# Altium footprint library Misc.PcbLib: 27 footprints (part 1 of 2)
Each footprint in its own frame and in the unit in brackets; x right, y up, seen from the top. Pads: shape width x height; smd on the part's side, far side on the other; paste and mask are expansions set on the pad; w line width, h text height; cw(c..) or ccw(c..) is an arc to the next point about the centre after c.
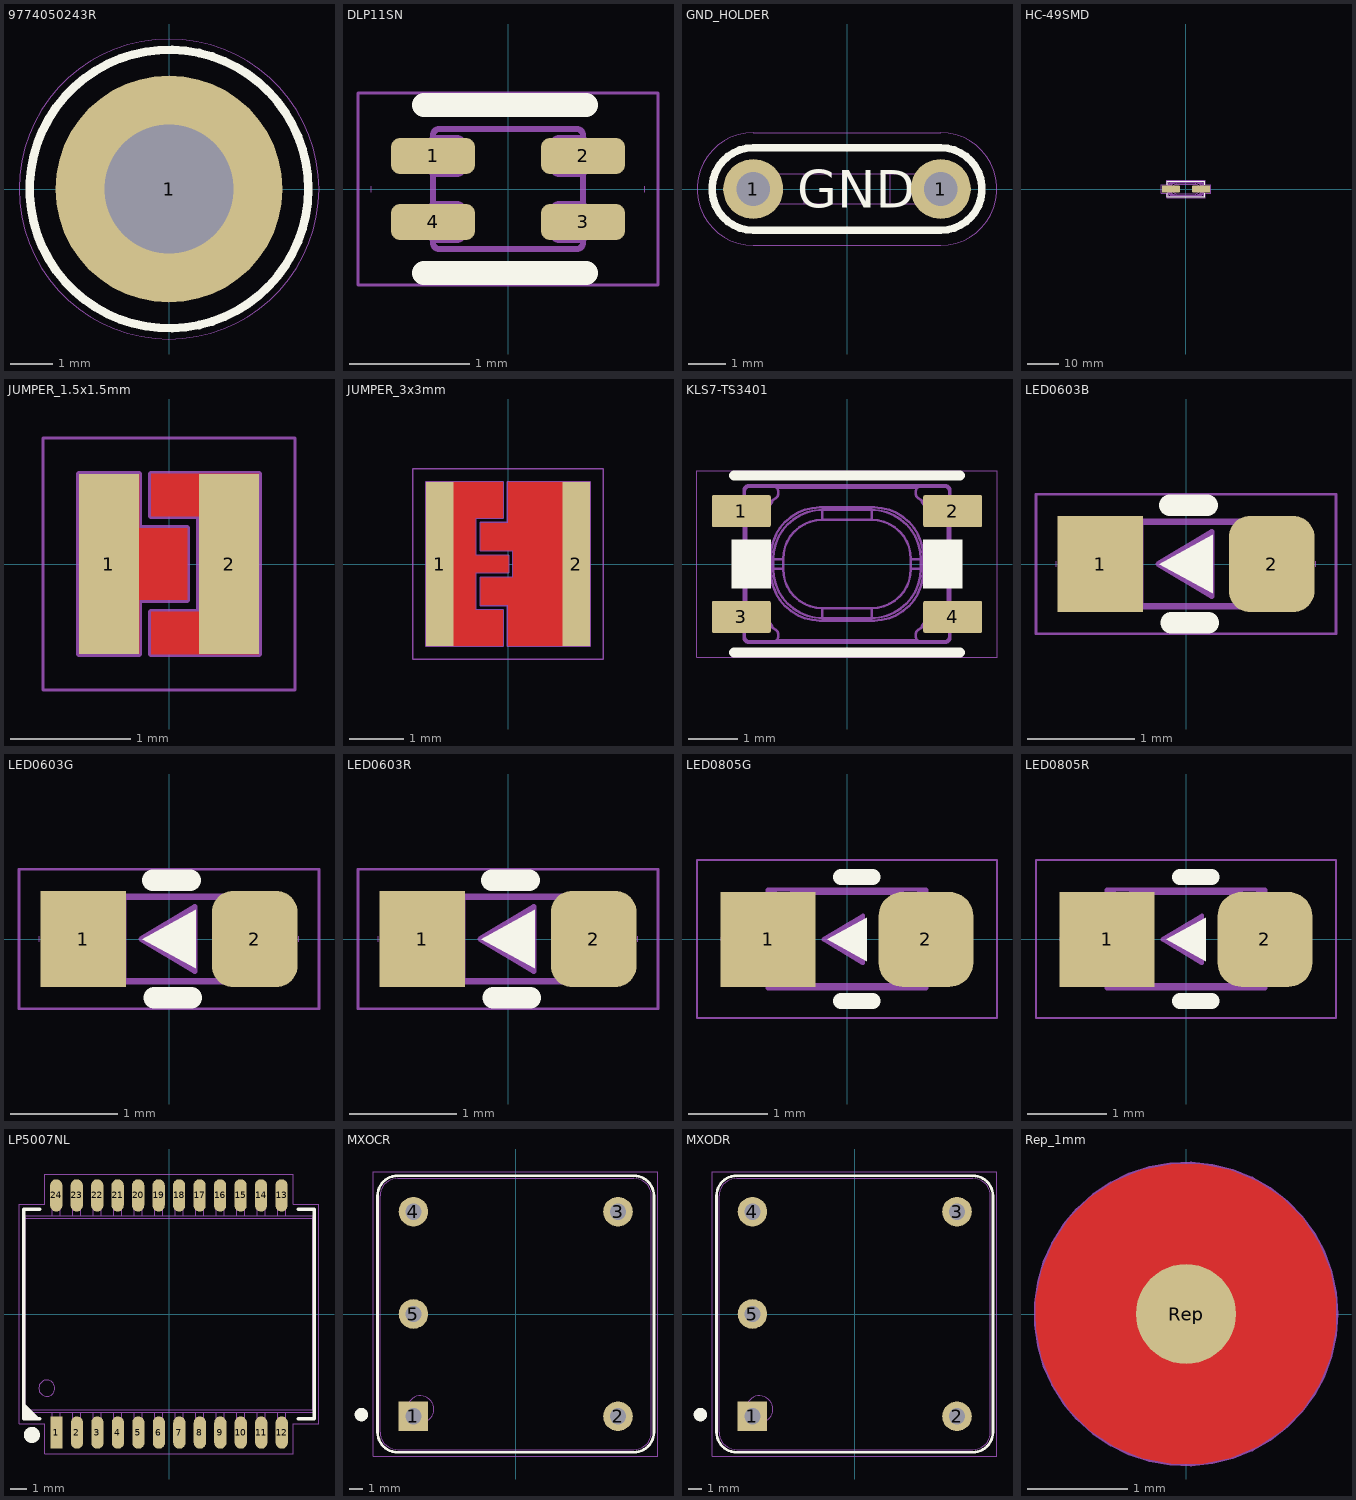
[diagram p0: the footprints below, top view; thin cyan lines are the x and y axes]

## 9774050243R [mm] "SMT Steel Spacer with internal Thread"
pads (1):
  round 5.3 hole 3: 1(0,0)
Top Overlay:
  circle w0.2: c0,0 r3.25
Top Paste:
  region: -2.545,0.3 -2.521,0.513 -2.402,0.926 -2.216,1.314 -1.968,1.664 -1.664,1.968 -1.314,2.216 -0.926,2.402 -0.513,2.521 -0.3,2.545 -0.3,1.521 -0.411,1.494 -0.627,1.418 -0.828,1.31 -1.012,1.174 -1.174,1.012 -1.31,0.828 -1.418,0.627 -1.494,0.411 -1.521,0.3
  region: 2.545,0.3 2.521,0.513 2.402,0.926 2.216,1.314 1.968,1.664 1.664,1.968 1.314,2.216 0.926,2.402 0.513,2.521 0.3,2.545 0.3,1.521 0.411,1.494 0.627,1.418 0.828,1.31 1.012,1.174 1.174,1.012 1.31,0.828 1.418,0.627 1.494,0.411 1.521,0.3
  region: -2.545,-0.3 -2.521,-0.513 -2.402,-0.926 -2.216,-1.314 -1.968,-1.664 -1.664,-1.968 -1.314,-2.216 -0.926,-2.402 -0.513,-2.521 -0.3,-2.545 -0.3,-1.521 -0.411,-1.494 -0.627,-1.418 -0.828,-1.31 -1.012,-1.174 -1.174,-1.012 -1.31,-0.828 -1.418,-0.627 -1.494,-0.411 -1.521,-0.3
  region: 2.545,-0.3 2.521,-0.513 2.402,-0.926 2.216,-1.314 1.968,-1.664 1.664,-1.968 1.314,-2.216 0.926,-2.402 0.513,-2.521 0.3,-2.545 0.3,-1.521 0.411,-1.494 0.627,-1.418 0.828,-1.31 1.012,-1.174 1.174,-1.012 1.31,-0.828 1.418,-0.627 1.494,-0.411 1.521,-0.3
Top Courtyard:
  circle w0.025: c0,0 r3.5
Top Assembly:
  circle w0.05: c0,0 r0.784
  circle w0.05: c0,0 r2.175
  text ".Designator" at -2.252,2.474 h1
3D body "9774050243R (rev1).stp": height 5, standoff -1.4, extent -2.175,-2.163 2.175,2.163

## DLP11SN [mm]
height 0.82
pads (4):
  rrect50% 0.7x0.3 smd mask+0.05: 1(-0.625,0.275) 2(0.625,0.275) 3(0.625,-0.275) 4(-0.625,-0.275)
Top Overlay:
  lines w0.2: -0.7,-0.7 0.65,-0.7 ; -0.7,0.7 0.65,0.7
Top Courtyard:
  lines w0.025: -1.25,-0.8 1.25,-0.8 1.25,0.8 -1.25,0.8 -1.25,-0.8
Top Assembly:
  lines w0.01: -1.14,-0.025 -1.14,0.025 ; 1.14,-0.025 1.14,0.025
  lines w0.05: -0.625,-0.425 -0.625,-0.45 ccw(c-0.575,-0.45) -0.575,-0.5 0.575,-0.5 ccw(c0.575,-0.45) 0.625,-0.45 0.625,-0.425 ; -0.625,-0.125 -0.625,0.125 ; -0.625,0.425 -0.625,0.45 cw(c-0.575,0.45) -0.575,0.5 0.575,0.5 cw(c0.575,0.45) 0.625,0.45 0.625,0.425 ; -0.58,-0.425 -0.58,-0.125 ; -0.58,0.125 -0.58,0.425 ; -0.53,-0.425 -0.53,-0.125 ; -0.53,0.125 -0.53,0.425 ; -0.48,-0.425 -0.48,-0.125 ; -0.48,0.125 -0.48,0.425 ; -0.43,-0.425 -0.43,-0.125 ; -0.43,0.125 -0.43,0.425 ; -0.38,-0.375 -0.38,-0.175 ; -0.38,0.175 -0.38,0.375 ; 0.38,-0.375 0.38,-0.175 ; 0.38,0.175 0.38,0.375 ; 0.43,-0.425 0.43,-0.125 ; 0.43,0.125 0.43,0.425 ; 0.48,-0.425 0.48,-0.125 ; 0.48,0.125 0.48,0.425 ; 0.53,-0.425 0.53,-0.125 ; 0.53,0.125 0.53,0.425 ; 0.58,-0.425 0.58,-0.125 ; 0.58,0.125 0.58,0.425 ; 0.625,-0.125 0.625,0.125 ; -0.63,-0.425 -0.425,-0.425 ccw(c-0.425,-0.375) -0.375,-0.375 -0.375,-0.175 ccw(c-0.425,-0.175) -0.425,-0.125 -0.63,-0.125 -0.63,-0.425 ; -0.63,0.125 -0.425,0.125 ccw(c-0.425,0.175) -0.375,0.175 -0.375,0.375 ccw(c-0.425,0.375) -0.425,0.425 -0.63,0.425 -0.63,0.125 ; 0.375,-0.375 ccw(c0.425,-0.375) 0.425,-0.425 0.63,-0.425 0.63,-0.125 0.425,-0.125 ccw(c0.425,-0.175) 0.375,-0.175 0.375,-0.375 ; 0.375,0.175 ccw(c0.425,0.175) 0.425,0.125 0.63,0.125 0.63,0.425 0.425,0.425 ccw(c0.425,0.375) 0.375,0.375 0.375,0.175
  text ".Designator" at -2.252,0.774 h1
3D body "DLP11SN900SL2.x_t": height 0.82, standoff -0.01, extent -0.63,-0.5 0.63,0.5

## GND_HOLDER [mm] "GND Holder for measuring equipment"
pads (2):
  round 1.6 hole 0.9: 1(-2.5,0) 1(2.5,0)
Top Overlay:
  lines w0.2: -2.5,-1.1 cw(c-2.5,0) -2.5,1.1 2.5,1.1 cw(c2.5,0) 2.5,-1.1 -2.5,-1.1
  text "GND" at -1.333,-0.5 h1
Top Courtyard:
  lines w0.025: -2.5,-1.5 cw(c-2.5,0) -2.5,1.5 2.5,1.5 cw(c2.5,0) 2.5,-1.5 -2.5,-1.5
Top Assembly:
  lines w0.013: -2.494,0.406 2.506,0.406 ; -2.49,0.406 ccw(c-2.494,0.006) -2.494,-0.394 2.506,-0.394 ccw(c2.506,0.006) 2.502,0.406 ; -1.144,-0.394 -1.144,0.406 ; 1.156,-0.394 1.156,0.406
  text ".Designator" at -2.252,0.874 h1
3D body "GND_HOLDER.x_t": height 2.4, standoff -2, extent -2.9,-0.4 2.9,0.4

## HC-49SMD [mm] "HC-49SMD crystal package"
height 3.8
pads (2):
  rrect10% 5.6x2.1 smd: 1(-4.75,0) 2(4.75,0)
Top Overlay:
  lines w0.2: -5.9,-1.4 -5.9,-2.5 5.9,-2.5 5.9,-1.4 ; -5.9,1.4 -5.9,2.5 5.9,2.5 5.9,1.4
Top Courtyard:
  lines w0.025: -7.85,-1.35 -7.85,1.35 -6.1,1.35 -6.1,2.7 6.1,2.7 6.1,1.35 7.85,1.35 7.85,-1.35 6.1,-1.35 6.1,-2.7 -6.1,-2.7 -6.1,-1.35 -7.85,-1.35
Top Assembly:
  drawing of 202 lines, arcs and shapes, not listed
  text ".Designator" at -4.511,-0.453 h2
3D body "HC-49SMD.x_t": height 3.81, standoff 0.01, extent -6.2,-2.4 6.2,2.4

## JUMPER_1.5x1.5mm [mm] "Solder jumper 1.5x1.5 mm"
pads (2):
  rect 0.5x1.5 smd paste-3 mask+0.05: 1(-0.5,0) 2(0.5,0)
Top Layer:
  region: -0.75,0.75 -0.25,0.75 -0.25,0.3 0.15,0.3 0.15,-0.3 -0.25,-0.3 -0.25,-0.75 -0.75,-0.75
  region: 0.25,0.75 -0.15,0.75 -0.15,0.4 0.25,0.4 0.25,-0.4 -0.15,-0.4 -0.15,-0.75 0.25,-0.75 0.75,-0.75 0.75,0.75
Top Solder:
  region: -0.85,0.85 0.85,0.85 0.85,-0.85 -0.85,-0.85
Top Courtyard:
  lines w0.025: -1.05,-1.05 -1.05,1.05 1.05,1.05 1.05,-1.05 -1.05,-1.05
Top Assembly:
  lines w0.05: -0.75,-0.75 -0.75,0.75 -0.25,0.75 -0.25,0.3 0.15,0.3 0.15,-0.3 -0.25,-0.3 -0.25,-0.75 -0.75,-0.75 ; -0.15,-0.75 0.75,-0.75 0.75,0.75 -0.15,0.75 -0.15,0.4 0.25,0.4 0.25,-0.4 -0.15,-0.4 -0.15,-0.75
  text ".Designator" at -2.252,1.063 h1

## JUMPER_3x3mm [mm] "Solder jumper 3x3 mm"
pads (2):
  rect 0.5x3 smd paste-3 mask+0.05: 1(-1.25,0) 2(1.25,0)
Top Layer:
  region: -1.5,1.5 -0.1,1.5 -0.1,0.85 -0.6,0.85 -0.6,0.15 0,0.15 0,-0.15 -0.6,-0.15 -0.6,-0.85 -0.1,-0.85 -0.1,-1.5 -1.5,-1.5
  region: 0,1.5 0,0.75 -0.5,0.75 -0.5,0.25 0.1,0.25 0.1,-0.25 -0.5,-0.25 -0.5,-0.75 0,-0.75 0,-1.5 1.5,-1.5 1.5,1.5
Top Solder:
  region: -1.55,1.55 1.55,1.55 1.55,-1.55 -1.55,-1.55
Top Courtyard:
  lines w0.025: -1.75,-1.75 -1.75,1.75 1.75,1.75 1.75,-1.75 -1.75,-1.75
Top Assembly:
  lines w0.05: -1.5,-1.5 -0.1,-1.5 -0.1,-0.85 -0.6,-0.85 -0.6,-0.15 0,-0.15 0,0.15 -0.6,0.15 -0.6,0.85 -0.1,0.85 -0.1,1.5 -1.5,1.5 -1.5,-1.5 ; -0.5,-0.75 -0.5,-0.25 0.1,-0.25 0.1,0.25 -0.5,0.25 -0.5,0.75 0,0.75 0,1.5 1.5,1.5 1.5,-1.5 0,-1.5 0,-0.75 -0.5,-0.75
  text ".Designator" at -2.252,1.763 h1

## KLS7-TS3401 [mm] "Tact button"
height 2.5
pads (4):
  rrect10% 1.2x0.65 smd: 1(-2.15,1.075) 2(2.15,1.075) 3(-2.15,-1.075) 4(2.15,-1.075)
Top Overlay:
  rectangle: -2.35,-0.5 -1.55,0.5
  region: 2.35,0.5 1.55,0.5 1.55,-0.5 2.35,-0.5
  lines w0.2: -2.3,-1.8 2.3,-1.8 ; -2.3,1.8 2.3,1.8
Top Courtyard:
  lines w0.025: -3.05,-1.9 3.05,-1.9 3.05,1.9 -3.05,1.9 -3.05,-1.9
Top Assembly:
  lines w0.05: -2.1,-1.35 -2.5,-1.35 cw(c-2.5,-1.3) -2.55,-1.3 -2.55,-0.85 cw(c-2.5,-0.85) -2.5,-0.8 -2.1,-0.8 ; -2.1,0.8 -2.5,0.8 cw(c-2.5,0.85) -2.55,0.85 -2.55,1.3 cw(c-2.5,1.3) -2.5,1.35 -2.1,1.35 ; -2.05,-1.081 -2.05,1.081 ; -1.721,-1.15 -1.7,-1.15 cw(c-1.7,-1.35) -1.506,-1.301 ; -1.721,1.15 -1.7,1.15 ccw(c-1.7,1.35) -1.506,1.301 ; -1.431,-1.55 1.431,-1.55 ; -1.431,1.55 1.431,1.55 ; 1.506,-1.301 cw(c1.7,-1.35) 1.7,-1.15 1.721,-1.15 ; 1.506,1.301 ccw(c1.7,1.35) 1.7,1.15 1.721,1.15 ; 2.05,-1.081 2.05,1.081 ; 2.1,-1.35 2.5,-1.35 ccw(c2.5,-1.3) 2.55,-1.3 2.55,-0.85 ccw(c2.5,-0.85) 2.5,-0.8 2.1,-0.8 ; 2.1,0.8 2.5,0.8 ccw(c2.5,0.85) 2.55,0.85 2.55,1.3 ccw(c2.5,1.3) 2.5,1.35 2.1,1.35 ; -1.5,-0.1 ccw(c-0.5,-0.1) -0.5,-1.1 ; -1.5,-0.1 -1.3,-0.1 ; -1.5,-0.1 -1.5,0.1 ; -1.5,0.1 cw(c-0.5,0.1) -0.5,1.1 ; -1.5,0.1 -1.3,0.1 ; -1.3,-0.1 ccw(c-0.5,-0.1) -0.5,-0.9 ; -1.3,-0.1 -1.3,0.1 ; -1.3,0.1 cw(c-0.5,0.1) -0.5,0.9 ; -0.5,-1.1 0.5,-1.1 ; -0.5,-1.1 -0.5,-0.9 ; -0.5,-0.9 0.5,-0.9 ; -0.5,0.9 0.5,0.9 ; -0.5,0.9 -0.5,1.1 ; -0.5,1.1 0.5,1.1 ; 0.5,-1.1 ccw(c0.5,-0.1) 1.5,-0.1 ; 0.5,-1.1 0.5,-0.9 ; 0.5,-0.9 ccw(c0.5,-0.1) 1.3,-0.1 ; 0.5,0.9 cw(c0.5,0.1) 1.3,0.1 ; 0.5,0.9 0.5,1.1 ; 0.5,1.1 cw(c0.5,0.1) 1.5,0.1 ; 1.3,-0.1 1.3,0.1 ; 1.3,-0.1 1.5,-0.1 ; 1.3,0.1 1.5,0.1 ; 1.5,-0.1 1.5,0.1 ; -2.1,-1.5 ccw(c-2,-1.5) -2,-1.6 2,-1.6 ccw(c2,-1.5) 2.1,-1.5 2.1,1.5 ccw(c2,1.5) 2,1.6 -2,1.6 ccw(c-2,1.5) -2.1,1.5 -2.1,-1.5 ; -2.075,-1.48 ccw(c-1.98,-1.48) -1.98,-1.575 -1.495,-1.575 ccw(c-1.495,-1.48) -1.4,-1.48 -1.4,-1.424 ccw(c-1.495,-1.424) -1.441,-1.347 -1.84,-1.067 ccw(c-1.894,-1.145) -1.894,-1.05 -1.98,-1.05 ccw(c-1.98,-1.145) -2.075,-1.145 -2.075,-1.48 ; -2.075,1.145 ccw(c-1.98,1.145) -1.98,1.05 -1.894,1.05 ccw(c-1.894,1.145) -1.84,1.067 -1.441,1.347 ccw(c-1.495,1.424) -1.4,1.424 -1.4,1.48 ccw(c-1.495,1.48) -1.495,1.575 -1.98,1.575 ccw(c-1.98,1.48) -2.075,1.48 -2.075,1.145 ; -1.55,-0.15 ccw(c-0.55,-0.15) -0.55,-1.15 0.55,-1.15 ccw(c0.55,-0.15) 1.55,-0.15 1.55,0.15 ccw(c0.55,0.15) 0.55,1.15 -0.55,1.15 ccw(c-0.55,0.15) -1.55,0.15 -1.55,-0.15 ; 1.4,-1.48 ccw(c1.495,-1.48) 1.495,-1.575 1.98,-1.575 ccw(c1.98,-1.48) 2.075,-1.48 2.075,-1.145 ccw(c1.98,-1.145) 1.98,-1.05 1.894,-1.05 ccw(c1.894,-1.145) 1.84,-1.067 1.441,-1.347 ccw(c1.495,-1.424) 1.4,-1.424 1.4,-1.48 ; 1.4,1.424 ccw(c1.495,1.424) 1.441,1.347 1.84,1.067 ccw(c1.894,1.145) 1.894,1.05 1.98,1.05 ccw(c1.98,1.145) 2.075,1.145 2.075,1.48 ccw(c1.98,1.48) 1.98,1.575 1.495,1.575 ccw(c1.495,1.48) 1.4,1.48 1.4,1.424
  text ".Designator" at -3.378,-0.339 h1.5
3D body "TVAF11.STEP": height 2.51, standoff 0, extent -2.55,-1.6 2.55,1.6

## LED0603B [mm] "LED 0603 Blue"
height 0.6
pads (2):
  rect 0.8x0.9 smd: 1(-0.8,0)
  rrect50% 0.8x0.9 smd: 2(0.8,0)
Top Overlay:
  region: -0.25,0 0.25,0.275 0.25,-0.275
  lines w0.2: -0.15,0.55 0.2,0.55 ; -0.14,-0.55 0.21,-0.55
Top Courtyard:
  lines w0.025: -1.4,-0.65 1.4,-0.65 1.4,0.65 -1.4,0.65 -1.4,-0.65
Top Assembly:
  lines w0.01: -1.21,-0.025 -1.21,0.025 ; 1.21,-0.025 1.21,0.025
  lines w0.05: -0.505,-0.38 -0.505,0.4 ; -0.46,-0.38 -0.46,0.4 ; -0.42,-0.38 -0.42,0.4 ; -0.21,-0.02 -0.21,0.03 ; -0.16,-0.05 -0.16,0.05 ; -0.11,-0.09 -0.11,0.09 ; -0.06,-0.12 -0.06,0.11 ; -0.01,-0.15 -0.01,0.15 ; 0.04,-0.17 0.04,0.18 ; 0.09,-0.21 0.09,0.21 ; 0.14,-0.24 0.14,0.24 ; 0.19,-0.27 0.19,0.26 ; -0.8,-0.248 ccw(c-0.8,0) -0.8,0.248 ; -0.8,-0.248 -0.8,-0.4 -0.54,-0.4 ; -0.8,-0.248 -0.8,-0.17 ; -0.8,-0.248 -0.8,-0.248 ; -0.8,-0.17 ccw(c-0.8,0) -0.8,0.17 ; -0.8,-0.17 -0.8,-0.17 ; -0.8,0.17 -0.8,0.17 ; -0.8,0.17 -0.8,0.248 ; -0.8,0.248 -0.8,0.4 -0.54,0.4 ; -0.8,0.248 -0.8,0.248 ; -0.55,-0.39 ccw(c-0.54,-0.39) -0.54,-0.4 ; -0.55,-0.39 -0.54,-0.39 ; -0.55,-0.39 -0.55,0.39 ; -0.55,0.39 cw(c-0.54,0.39) -0.54,0.4 ; -0.55,0.39 -0.54,0.39 ; -0.54,-0.4 -0.54,-0.39 ; -0.54,-0.4 0.54,-0.4 ; -0.54,-0.39 0.54,-0.39 ; -0.54,-0.39 -0.54,0.39 ; -0.54,0.39 0.54,0.39 ; -0.54,0.39 -0.54,0.4 ; -0.54,0.4 0.54,0.4 ; 0.54,-0.4 ccw(c0.54,-0.39) 0.55,-0.39 ; 0.54,-0.4 0.54,-0.39 ; 0.54,-0.4 0.8,-0.4 0.8,-0.248 ; 0.54,-0.39 0.54,0.39 ; 0.54,-0.39 0.55,-0.39 ; 0.54,0.39 0.54,0.4 ; 0.54,0.39 0.55,0.39 ; 0.54,0.4 cw(c0.54,0.39) 0.55,0.39 ; 0.54,0.4 0.8,0.4 0.8,0.248 ; 0.55,-0.39 0.55,0.39 ; 0.8,-0.248 cw(c0.8,0) 0.8,0.248 ; 0.8,-0.248 0.8,-0.248 ; 0.8,-0.248 0.8,-0.17 ; 0.8,-0.17 cw(c0.8,0) 0.8,0.17 ; 0.8,-0.17 0.8,-0.17 ; 0.8,0.17 0.8,0.248 ; 0.8,0.17 0.8,0.17 ; 0.8,0.248 0.8,0.248 ; -0.26,0 0.24,-0.3 0.24,0.3 -0.26,0
  text ".Designator" at -2.252,0.663 h1
3D body "User Library-LED_0603_B.STEP": height 0.6, standoff 0, extent -0.8,-0.4 0.8,0.4

## LED0603G [mm] "LED 0603 Green"
height 0.6
pads (2):
  rect 0.8x0.9 smd: 1(-0.8,0)
  rrect50% 0.8x0.9 smd: 2(0.8,0)
Top Overlay:
  region: -0.25,0 0.25,0.275 0.25,-0.275
  lines w0.2: -0.15,0.55 0.2,0.55 ; -0.14,-0.55 0.21,-0.55
Top Courtyard:
  lines w0.025: -1.4,-0.65 1.4,-0.65 1.4,0.65 -1.4,0.65 -1.4,-0.65
Top Assembly:
  lines w0.01: -1.21,-0.025 -1.21,0.025 ; 1.21,-0.025 1.21,0.025
  lines w0.05: -0.505,-0.38 -0.505,0.4 ; -0.46,-0.38 -0.46,0.4 ; -0.42,-0.38 -0.42,0.4 ; -0.21,-0.02 -0.21,0.03 ; -0.16,-0.05 -0.16,0.05 ; -0.11,-0.09 -0.11,0.09 ; -0.06,-0.12 -0.06,0.11 ; -0.01,-0.15 -0.01,0.15 ; 0.04,-0.17 0.04,0.18 ; 0.09,-0.21 0.09,0.21 ; 0.14,-0.24 0.14,0.24 ; 0.19,-0.27 0.19,0.26 ; -0.8,-0.248 ccw(c-0.8,0) -0.8,0.248 ; -0.8,-0.248 -0.8,-0.248 ; -0.8,-0.248 -0.8,-0.17 ; -0.8,-0.248 -0.8,-0.4 -0.54,-0.4 ; -0.8,-0.17 ccw(c-0.8,0) -0.8,0.17 ; -0.8,-0.17 -0.8,-0.17 ; -0.8,0.17 -0.8,0.248 ; -0.8,0.17 -0.8,0.17 ; -0.8,0.248 -0.8,0.248 ; -0.8,0.248 -0.8,0.4 -0.54,0.4 ; -0.55,-0.39 ccw(c-0.54,-0.39) -0.54,-0.4 ; -0.55,-0.39 -0.55,0.39 ; -0.55,-0.39 -0.54,-0.39 ; -0.55,0.39 cw(c-0.54,0.39) -0.54,0.4 ; -0.55,0.39 -0.54,0.39 ; -0.54,-0.4 0.54,-0.4 ; -0.54,-0.4 -0.54,-0.39 ; -0.54,-0.39 -0.54,0.39 ; -0.54,-0.39 0.54,-0.39 ; -0.54,0.39 -0.54,0.4 ; -0.54,0.39 0.54,0.39 ; -0.54,0.4 0.54,0.4 ; 0.54,-0.4 ccw(c0.54,-0.39) 0.55,-0.39 ; 0.54,-0.4 0.8,-0.4 0.8,-0.248 ; 0.54,-0.4 0.54,-0.39 ; 0.54,-0.39 0.55,-0.39 ; 0.54,-0.39 0.54,0.39 ; 0.54,0.39 0.55,0.39 ; 0.54,0.39 0.54,0.4 ; 0.54,0.4 cw(c0.54,0.39) 0.55,0.39 ; 0.54,0.4 0.8,0.4 0.8,0.248 ; 0.55,-0.39 0.55,0.39 ; 0.8,-0.248 cw(c0.8,0) 0.8,0.248 ; 0.8,-0.248 0.8,-0.17 ; 0.8,-0.248 0.8,-0.248 ; 0.8,-0.17 cw(c0.8,0) 0.8,0.17 ; 0.8,-0.17 0.8,-0.17 ; 0.8,0.17 0.8,0.17 ; 0.8,0.17 0.8,0.248 ; 0.8,0.248 0.8,0.248 ; -0.26,0 0.24,0.3 0.24,-0.3 -0.26,0
  text ".Designator" at -2.252,0.663 h1
3D body "User Library-LED_0603_G.STEP": height 0.6, standoff 0, extent -0.8,-0.4 0.8,0.4

## LED0603R [mm] "LED 0603 Red"
height 0.6
pads (2):
  rect 0.8x0.9 smd: 1(-0.8,0)
  rrect50% 0.8x0.9 smd: 2(0.8,0)
Top Overlay:
  region: -0.25,0 0.25,0.275 0.25,-0.275
  lines w0.2: -0.15,0.55 0.2,0.55 ; -0.14,-0.55 0.21,-0.55
Top Courtyard:
  lines w0.025: -1.4,-0.65 -1.4,0.65 1.4,0.65 1.4,-0.65 -1.4,-0.65
Top Assembly:
  lines w0.01: -1.21,-0.025 -1.21,0.025 ; 1.21,-0.025 1.21,0.025
  lines w0.05: -0.505,-0.38 -0.505,0.4 ; -0.46,-0.38 -0.46,0.4 ; -0.42,-0.38 -0.42,0.4 ; -0.21,-0.02 -0.21,0.03 ; -0.16,-0.05 -0.16,0.05 ; -0.11,-0.09 -0.11,0.09 ; -0.06,-0.12 -0.06,0.11 ; -0.01,-0.15 -0.01,0.15 ; 0.04,-0.17 0.04,0.18 ; 0.09,-0.21 0.09,0.21 ; 0.14,-0.24 0.14,0.24 ; 0.19,-0.27 0.19,0.26 ; -0.8,-0.248 ccw(c-0.8,0) -0.8,0.248 ; -0.8,-0.248 -0.8,-0.248 ; -0.8,-0.248 -0.8,-0.17 ; -0.8,-0.248 -0.8,-0.4 -0.54,-0.4 ; -0.8,-0.17 ccw(c-0.8,0) -0.8,0.17 ; -0.8,-0.17 -0.8,-0.17 ; -0.8,0.17 -0.8,0.248 ; -0.8,0.17 -0.8,0.17 ; -0.8,0.248 -0.8,0.248 ; -0.8,0.248 -0.8,0.4 -0.54,0.4 ; -0.55,-0.39 ccw(c-0.54,-0.39) -0.54,-0.4 ; -0.55,-0.39 -0.55,0.39 ; -0.55,-0.39 -0.54,-0.39 ; -0.55,0.39 cw(c-0.54,0.39) -0.54,0.4 ; -0.55,0.39 -0.54,0.39 ; -0.54,-0.4 0.54,-0.4 ; -0.54,-0.4 -0.54,-0.39 ; -0.54,-0.39 -0.54,0.39 ; -0.54,-0.39 0.54,-0.39 ; -0.54,0.39 -0.54,0.4 ; -0.54,0.39 0.54,0.39 ; -0.54,0.4 0.54,0.4 ; 0.54,-0.4 ccw(c0.54,-0.39) 0.55,-0.39 ; 0.54,-0.4 0.8,-0.4 0.8,-0.248 ; 0.54,-0.4 0.54,-0.39 ; 0.54,-0.39 0.55,-0.39 ; 0.54,-0.39 0.54,0.39 ; 0.54,0.39 0.55,0.39 ; 0.54,0.39 0.54,0.4 ; 0.54,0.4 cw(c0.54,0.39) 0.55,0.39 ; 0.54,0.4 0.8,0.4 0.8,0.248 ; 0.55,-0.39 0.55,0.39 ; 0.8,-0.248 cw(c0.8,0) 0.8,0.248 ; 0.8,-0.248 0.8,-0.17 ; 0.8,-0.248 0.8,-0.248 ; 0.8,-0.17 cw(c0.8,0) 0.8,0.17 ; 0.8,-0.17 0.8,-0.17 ; 0.8,0.17 0.8,0.17 ; 0.8,0.17 0.8,0.248 ; 0.8,0.248 0.8,0.248 ; -0.26,0 0.24,0.3 0.24,-0.3 -0.26,0
  text ".Designator" at -2.252,0.663 h1
3D body "User Library-LED_0603_R.STEP": height 0.6, standoff 0, extent -0.8,-0.4 0.8,0.4

## LED0805G [mm] "LED 0805 Green"
height 0.8
pads (2):
  rect 1.2x1.2 smd: 1(-1,-0.005)
  rrect50% 1.2x1.2 smd: 2(1,-0.005)
Top Overlay:
  region: -0.25,-0.005 0.25,0.27 0.25,-0.28
  lines w0.2: -0.075,-0.785 0.325,-0.785 ; -0.075,0.785 0.325,0.785
Top Courtyard:
  lines w0.025: -1.9,-1 1.9,-1 1.9,1 -1.9,1 -1.9,-1
Top Assembly:
  lines w0.01: -1.59,-0.025 -1.59,0.025 ; 1.59,-0.025 1.59,0.025
  lines w0.05: -1.01,-0.575 -0.9,-0.575 -0.9,-0.346 ccw(c-1.1,0) -0.9,0.346 -0.9,0.575 -1.01,0.575 ; -1,-0.624 -1.01,-0.624 -1.01,-0.283 -1,-0.283 ccw(c-1.1,0) -1,0.283 -1.01,0.283 -1.01,0.624 -1,0.624 ; -1,-0.575 -1,-0.625 1,-0.625 1,-0.575 ; -1,0.575 -1,0.625 1,0.625 1,0.575 ; -0.85,-0.625 -0.85,-0.375 -0.7,-0.375 ; -0.8,-0.625 -0.8,-0.375 ; -0.75,-0.625 -0.75,-0.375 ; -0.25,-0.025 -0.25,0.025 ; -0.2,-0.055 -0.2,0.045 ; -0.15,-0.095 -0.15,0.085 ; -0.1,-0.125 -0.1,0.105 ; -0.05,-0.155 -0.05,0.145 ; 0,-0.175 0,0.175 ; 0.05,-0.215 0.05,0.205 ; 0.1,-0.245 0.1,0.235 ; 0.15,-0.275 0.15,0.255 ; 1,-0.624 1.01,-0.624 1.01,-0.283 1,-0.283 cw(c1.1,0) 1,0.283 1.01,0.283 1.01,0.624 1,0.624 ; 1.01,-0.575 0.9,-0.575 0.9,-0.346 cw(c1.1,0) 0.9,0.346 0.9,0.575 1.01,0.575 ; -0.656,-0.581 0.656,-0.581 ; -0.656,-0.581 -0.7,-0.625 -0.7,0.625 -0.656,0.581 ; -0.656,-0.581 -0.656,0.581 ; -0.656,0.581 0.656,0.581 ; 0.656,-0.581 0.656,0.581 ; 0.656,-0.581 0.7,-0.625 0.7,0.625 0.656,0.581 ; -0.3,-0.005 0.2,0.295 0.2,-0.305 -0.3,-0.005
  text ".Designator" at -1.801,0.819 h0.8
3D body "FYLS-0805PGC.x_t": height 0.8, standoff -0.01, extent -1.01,-0.625 1.01,0.625

## LED0805R [mm] "LED 0805 Red"
height 0.8
pads (2):
  rect 1.2x1.2 smd: 1(-1,-0.005)
  rrect50% 1.2x1.2 smd: 2(1,-0.005)
Top Overlay:
  region: -0.25,-0.005 0.25,0.27 0.25,-0.28
  lines w0.2: -0.075,-0.785 0.325,-0.785 ; -0.075,0.785 0.325,0.785
Top Courtyard:
  lines w0.025: -1.9,-1 -1.9,1 1.9,1 1.9,-1 -1.9,-1
Top Assembly:
  lines w0.01: -1.59,-0.025 -1.59,0.025 ; 1.59,-0.025 1.59,0.025
  lines w0.05: -1.01,-0.575 -0.9,-0.575 -0.9,-0.346 ccw(c-1.1,0) -0.9,0.346 -0.9,0.575 -1.01,0.575 ; -1,-0.624 -1.01,-0.624 -1.01,-0.283 -1,-0.283 ccw(c-1.1,0) -1,0.283 -1.01,0.283 -1.01,0.624 -1,0.624 ; -1,-0.575 -1,-0.625 1,-0.625 1,-0.575 ; -1,0.575 -1,0.625 1,0.625 1,0.575 ; -0.85,-0.625 -0.85,-0.375 -0.7,-0.375 ; -0.8,-0.625 -0.8,-0.375 ; -0.75,-0.625 -0.75,-0.375 ; -0.25,-0.025 -0.25,0.025 ; -0.2,-0.055 -0.2,0.045 ; -0.15,-0.095 -0.15,0.085 ; -0.1,-0.125 -0.1,0.105 ; -0.05,-0.155 -0.05,0.145 ; 0,-0.175 0,0.175 ; 0.05,-0.215 0.05,0.205 ; 0.1,-0.245 0.1,0.235 ; 0.15,-0.275 0.15,0.255 ; 1,-0.624 1.01,-0.624 1.01,-0.283 1,-0.283 cw(c1.1,0) 1,0.283 1.01,0.283 1.01,0.624 1,0.624 ; 1.01,-0.575 0.9,-0.575 0.9,-0.346 cw(c1.1,0) 0.9,0.346 0.9,0.575 1.01,0.575 ; -0.656,-0.581 -0.656,0.581 ; -0.656,-0.581 -0.7,-0.625 -0.7,0.625 -0.656,0.581 ; -0.656,-0.581 0.656,-0.581 ; -0.656,0.581 0.656,0.581 ; 0.656,-0.581 0.7,-0.625 0.7,0.625 0.656,0.581 ; 0.656,-0.581 0.656,0.581 ; -0.3,-0.005 0.2,-0.305 0.2,0.295 -0.3,-0.005
  text ".Designator" at -1.801,0.819 h0.8
3D body "FYLS-0805SURC.x_t": height 0.8, standoff -0.01, extent -1.01,-0.625 1.01,0.625

## LP5007NL [mm]
pads (24):
  rect 0.76x2 smd: 1(-6.977,-7.352)
  oval 0.76x2 smd: 2(-5.707,-7.352) 3(-4.437,-7.352) 4(-3.167,-7.352) 5(-1.897,-7.352) 6(-0.627,-7.352) 7(0.643,-7.352) 8(1.913,-7.352) 9(3.183,-7.352) 10(4.453,-7.352) 11(5.723,-7.352) 12(6.993,-7.352) 13(6.977,7.352) 14(5.707,7.352) 15(4.437,7.352) 16(3.167,7.352) 17(1.897,7.352) 18(0.627,7.352) 19(-0.643,7.352) 20(-1.913,7.352) 21(-3.183,7.352) 22(-4.453,7.352) 23(-5.723,7.352) 24(-6.993,7.352)
Top Overlay:
  circle w0.5: c-8.5,-7.5 r0.25
  region: -9,-5.5 -9,-6.5 -8,-6.5
  lines w0.2: -8,-6.5 -9,-6.5 -9,6.5 -8,6.5 ; 8,-6.5 9,-6.5 9,6.5 8,6.5
Top Courtyard:
  lines w0.025: -9.3,-6.8 -7.7,-6.8 -7.7,-8.65 7.7,-8.65 7.7,-6.8 9.3,-6.8 9.3,6.8 7.7,6.8 7.7,8.65 -7.7,8.65 -7.7,6.8 -9.3,6.8 -9.3,-6.8
Top Assembly:
  drawing of 421 lines, arcs and shapes, not listed
  text ".Designator" at -6.763,-0.679 h3
3D body "LP5007NL_LINK_PP.x_t": height 6, standoff 0, extent -9.075,-8 9.075,8

## MXOCR [mm] "High stability oscillator"
height 12.6
pads (5):
  rect 2.2x2.2 hole 1.2: 1(-7.62,-7.62)
  round 2.2 hole 1.2: 2(7.62,-7.62) 3(7.62,7.62) 4(-7.62,7.62) 5(-7.62,0)
Top Overlay:
  circle w0.5: c-11.5,-7.5 r0.25
  lines w0.2: -10.3,-8.8 ccw(c-8.8,-8.8) -8.8,-10.3 8.8,-10.3 ccw(c8.8,-8.8) 10.3,-8.8 10.3,8.8 ccw(c8.8,8.8) 8.8,10.3 -8.8,10.3 ccw(c-8.8,8.8) -10.3,8.8 -10.3,-8.8
Top Courtyard:
  lines w0.025: -10.6,-10.6 -10.6,10.6 10.6,10.6 10.6,-10.6 -10.6,-10.6
Top Assembly:
  circle w0.05: c-7.1,-7.1 r1
  lines w0.05: -10.1,-8.8 ccw(c-8.8,-8.8) -8.8,-10.1 8.8,-10.1 ccw(c8.8,-8.8) 10.1,-8.8 10.1,8.8 ccw(c8.8,8.8) 8.8,10.1 -8.8,10.1 ccw(c-8.8,8.8) -10.1,8.8 -10.1,-8.8
  text ".Designator" at -11.274,-1.132 h5
3D body "MXOCR.x_t": height 12.6, standoff -5.5, extent -10.1,-10.1 10.1,10.1

## MXODR [mm] "High stability oscillator"
height 13.8
pads (5):
  rect 2.2x2.2 hole 1.2: 1(-7.62,-7.62)
  round 2.2 hole 1.2: 2(7.62,-7.62) 3(7.62,7.62) 4(-7.62,7.62) 5(-7.62,0)
Top Overlay:
  circle w0.5: c-11.5,-7.5 r0.25
  lines w0.2: -10.3,-8.8 ccw(c-8.8,-8.8) -8.8,-10.3 8.8,-10.3 ccw(c8.8,-8.8) 10.3,-8.8 10.3,8.8 ccw(c8.8,8.8) 8.8,10.3 -8.8,10.3 ccw(c-8.8,8.8) -10.3,8.8 -10.3,-8.8
Top Courtyard:
  lines w0.025: -10.6,-10.6 -10.6,10.6 10.6,10.6 10.6,-10.6 -10.6,-10.6
Top Assembly:
  circle w0.05: c-7.1,-7.1 r1
  lines w0.05: -10.1,-8.8 ccw(c-8.8,-8.8) -8.8,-10.1 8.8,-10.1 ccw(c8.8,-8.8) 10.1,-8.8 10.1,8.8 ccw(c8.8,8.8) 8.8,10.1 -8.8,10.1 ccw(c-8.8,8.8) -10.1,8.8 -10.1,-8.8
  text ".Designator" at -11.274,-1.132 h5
3D body "MXODR.x_t": height 13.8, standoff -5.5, extent -10.1,-10.1 10.1,10.1

## Rep_1mm [mm] "Rep. Point 1mm"
pads (1):
  round 1 smd paste-2539.97 mask+1: Rep(0,0)
Top Layer:
  pour cut-out: 0,1.5 0.148,1.5 0.438,1.442 0.711,1.329 0.956,1.165 1.165,0.956 1.329,0.711 1.442,0.438 1.5,0.148 1.5,0 1.5,-0.148 1.442,-0.438 1.329,-0.711 1.165,-0.956 0.956,-1.165 0.711,-1.329 0.438,-1.442 0.148,-1.5 0,-1.5 -0.148,-1.5 -0.438,-1.442 -0.711,-1.329 -0.956,-1.165 -1.165,-0.956 -1.329,-0.711 -1.442,-0.438 -1.5,-0.148 -1.5,0 -1.5,0.148 -1.442,0.438 -1.329,0.711 -1.165,0.956 -0.956,1.165 -0.711,1.329 -0.438,1.442 -0.148,1.5
Top Courtyard:
  circle w0.025: c0,0 r1.5
Top Assembly:
  circle w0.05: c0,0 r1.5
  circle w0.05: c0,0 r0.5
  text ".Designator" at -2.252,1.774 h1